# Altium footprint library PCB - LEADED - SOP64P602X175-16N.PCBLIB: 1 footprints
Each footprint in its own frame and in the unit in brackets; x right, y up, seen from the top. Pads: shape width x height; smd on the part's side, far side on the other; paste and mask are expansions set on the pad; w line width, h text height; cw(c..) or ccw(c..) is an arc to the next point about the centre after c.
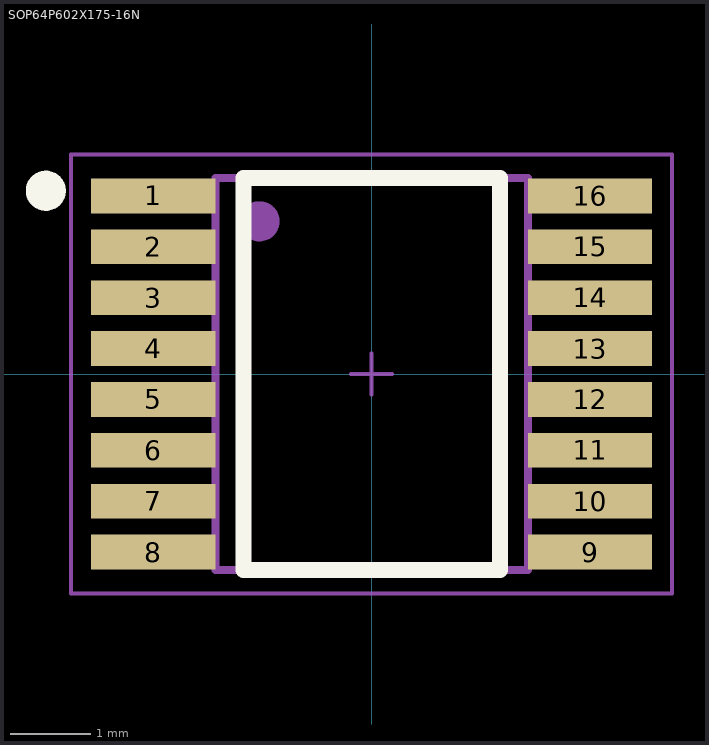
[diagram p0: the footprint, top view; thin cyan lines are the x and y axes]

## SOP64P602X175-16N [mm]
pads (16):
  rect 1.55x0.435 smd: 1(-2.725,2.222) 2(-2.725,1.588) 3(-2.725,0.952) 4(-2.725,0.318) 5(-2.725,-0.318) 6(-2.725,-0.952) 7(-2.725,-1.588) 8(-2.725,-2.222) 9(2.725,-2.222) 10(2.725,-1.588) 11(2.725,-0.952) 12(2.725,-0.318) 13(2.725,0.318) 14(2.725,0.952) 15(2.725,1.588) 16(2.725,2.222)
Top Overlay:
  circle w0.25: c-4.064,2.286 r0.125
  lines w0.2: -1.6,-2.445 -1.6,2.445 1.6,2.445 1.6,-2.445 -1.6,-2.445
Top Assembly:
  circle w0.25: c-1.397,1.905 r0.125
  lines w0.1: -1.95,-2.445 -1.95,2.445 1.95,2.445 1.95,-2.445 -1.95,-2.445
Top Courtyard:
  lines w0.05: -3.75,-2.74 3.75,-2.74 3.75,2.74 -3.75,2.74 -3.75,-2.74
Top Designator:
  text ".Designator" at -5.715,3.429 h1.52
Top Component Center:
  lines w0.05: -0.254,0 0.254,0 ; 0,-0.254 0,0.254
3D body "MAX31760AEE+.stp": height 1.75, standoff 0, extent -3.01,-2.445 3.01,2.445